# EAGLE library part USB-FPGA1.15 (library usb-fpga-1)
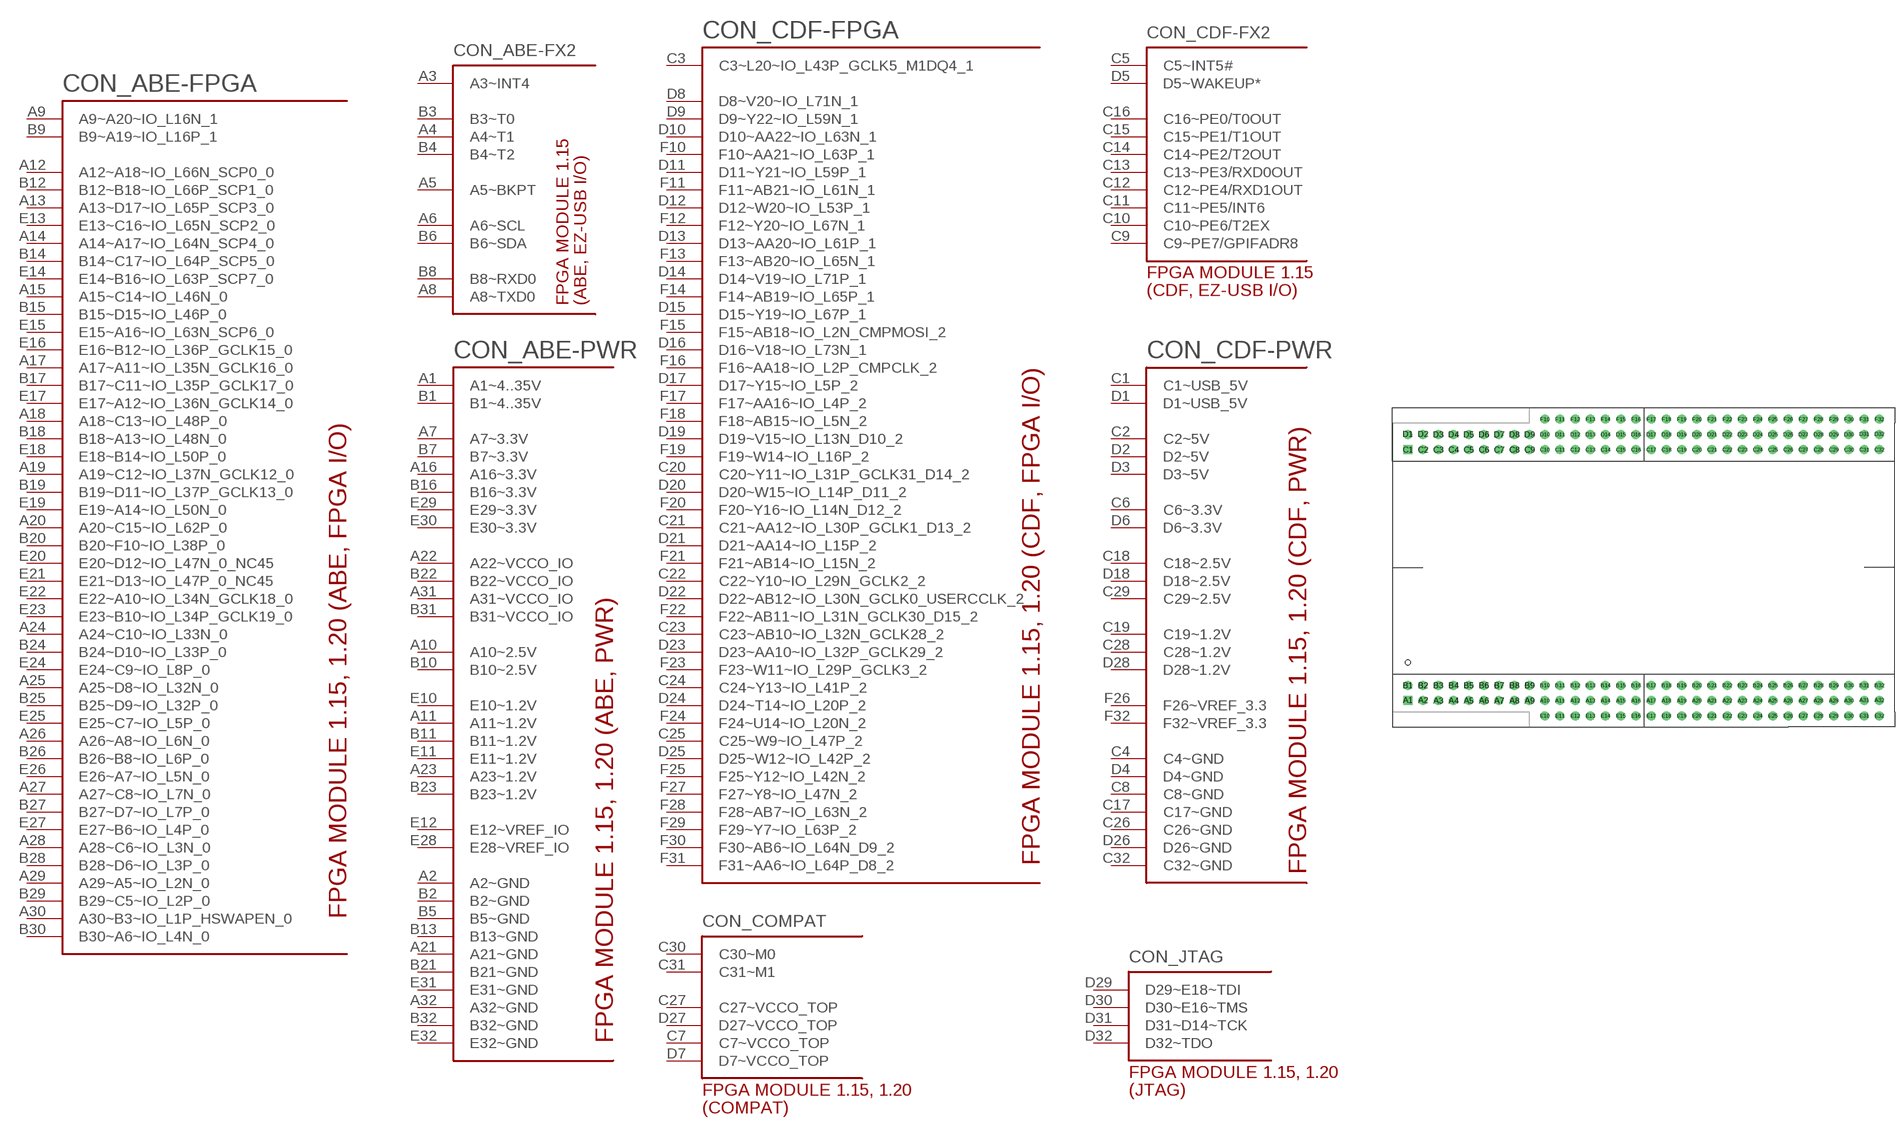
[diagram p11: symbol with the pads of USB-FPGA1.15; footprint USB-FPGA1.15]

Designator prefix CON; gates _ABE-FPGA=IO1.15-ABE-FPGA _ABE-FX2=IO1.15-ABE-FX2 _ABE-PWR=IO1.15-ABE-PWR _CDF-FPGA=IO1.15-CDF-FPGA _CDF-FX2=IO1.15-CDF-FX2 _JTAG=IO1.15-CDF-JTAG _CDF-PWR=IO1.15-CDF-PWR _COMPAT=IO1.15-CDF-COMPAT

## USB-FPGA1.15  [USB-FPGA1.15]
A1  _ABE-PWR:A1~4..35V
A2  _ABE-PWR:A2~GND
A3  _ABE-FX2:A3~INT4
A4  _ABE-FX2:A4~T1
A5  _ABE-FX2:A5~BKPT
A6  _ABE-FX2:A6~SCL
A7  _ABE-PWR:A7~3.3V
A8  _ABE-FX2:A8~TXD0
A9  _ABE-FPGA:A9~A20~IO_L16N_1
A10  _ABE-PWR:A10~2.5V
A11  _ABE-PWR:A11~1.2V
A12  _ABE-FPGA:A12~A18~IO_L66N_SCP0_0
A13  _ABE-FPGA:A13~D17~IO_L65P_SCP3_0
A14  _ABE-FPGA:A14~A17~IO_L64N_SCP4_0
A15  _ABE-FPGA:A15~C14~IO_L46N_0
A16  _ABE-PWR:A16~3.3V
A17  _ABE-FPGA:A17~A11~IO_L35N_GCLK16_0
A18  _ABE-FPGA:A18~C13~IO_L48P_0
A19  _ABE-FPGA:A19~C12~IO_L37N_GCLK12_0
A20  _ABE-FPGA:A20~C15~IO_L62P_0
A21  _ABE-PWR:A21~GND
A22  _ABE-PWR:A22~VCCO_IO
A23  _ABE-PWR:A23~1.2V
A24  _ABE-FPGA:A24~C10~IO_L33N_0
A25  _ABE-FPGA:A25~D8~IO_L32N_0
A26  _ABE-FPGA:A26~A8~IO_L6N_0
A27  _ABE-FPGA:A27~C8~IO_L7N_0
A28  _ABE-FPGA:A28~C6~IO_L3N_0
A29  _ABE-FPGA:A29~A5~IO_L2N_0
A30  _ABE-FPGA:A30~B3~IO_L1P_HSWAPEN_0
A31  _ABE-PWR:A31~VCCO_IO
A32  _ABE-PWR:A32~GND
B1  _ABE-PWR:B1~4..35V
B2  _ABE-PWR:B2~GND
B3  _ABE-FX2:B3~T0
B4  _ABE-FX2:B4~T2
B5  _ABE-PWR:B5~GND
B6  _ABE-FX2:B6~SDA
B7  _ABE-PWR:B7~3.3V
B8  _ABE-FX2:B8~RXD0
B9  _ABE-FPGA:B9~A19~IO_L16P_1
B10  _ABE-PWR:B10~2.5V
B11  _ABE-PWR:B11~1.2V
B12  _ABE-FPGA:B12~B18~IO_L66P_SCP1_0
B13  _ABE-PWR:B13~GND
B14  _ABE-FPGA:B14~C17~IO_L64P_SCP5_0
B15  _ABE-FPGA:B15~D15~IO_L46P_0
B16  _ABE-PWR:B16~3.3V
B17  _ABE-FPGA:B17~C11~IO_L35P_GCLK17_0
B18  _ABE-FPGA:B18~A13~IO_L48N_0
B19  _ABE-FPGA:B19~D11~IO_L37P_GCLK13_0
B20  _ABE-FPGA:B20~F10~IO_L38P_0
B21  _ABE-PWR:B21~GND
B22  _ABE-PWR:B22~VCCO_IO
B23  _ABE-PWR:B23~1.2V
B24  _ABE-FPGA:B24~D10~IO_L33P_0
B25  _ABE-FPGA:B25~D9~IO_L32P_0
B26  _ABE-FPGA:B26~B8~IO_L6P_0
B27  _ABE-FPGA:B27~D7~IO_L7P_0
B28  _ABE-FPGA:B28~D6~IO_L3P_0
B29  _ABE-FPGA:B29~C5~IO_L2P_0
B30  _ABE-FPGA:B30~A6~IO_L4N_0
B31  _ABE-PWR:B31~VCCO_IO
B32  _ABE-PWR:B32~GND
C1  _CDF-PWR:C1~USB_5V
C2  _CDF-PWR:C2~5V
C3  _CDF-FPGA:C3~L20~IO_L43P_GCLK5_M1DQ4_1
C4  _CDF-PWR:C4~GND
C5  _CDF-FX2:C5~INT5#
C6  _CDF-PWR:C6~3.3V
C7  _COMPAT:C7~VCCO_TOP
C8  _CDF-PWR:C8~GND
C9  _CDF-FX2:C9~PE7/GPIFADR8
C10  _CDF-FX2:C10~PE6/T2EX
C11  _CDF-FX2:C11~PE5/INT6
C12  _CDF-FX2:C12~PE4/RXD1OUT
C13  _CDF-FX2:C13~PE3/RXD0OUT
C14  _CDF-FX2:C14~PE2/T2OUT
C15  _CDF-FX2:C15~PE1/T1OUT
C16  _CDF-FX2:C16~PE0/T0OUT
C17  _CDF-PWR:C17~GND
C18  _CDF-PWR:C18~2.5V
C19  _CDF-PWR:C19~1.2V
C20  _CDF-FPGA:C20~Y11~IO_L31P_GCLK31_D14_2
C21  _CDF-FPGA:C21~AA12~IO_L30P_GCLK1_D13_2
C22  _CDF-FPGA:C22~Y10~IO_L29N_GCLK2_2
C23  _CDF-FPGA:C23~AB10~IO_L32N_GCLK28_2
C24  _CDF-FPGA:C24~Y13~IO_L41P_2
C25  _CDF-FPGA:C25~W9~IO_L47P_2
C26  _CDF-PWR:C26~GND
C27  _COMPAT:C27~VCCO_TOP
C28  _CDF-PWR:C28~1.2V
C29  _CDF-PWR:C29~2.5V
C30  _COMPAT:C30~M0
C31  _COMPAT:C31~M1
C32  _CDF-PWR:C32~GND
D1  _CDF-PWR:D1~USB_5V
D2  _CDF-PWR:D2~5V
D3  _CDF-PWR:D3~5V
D4  _CDF-PWR:D4~GND
D5  _CDF-FX2:D5~WAKEUP*
D6  _CDF-PWR:D6~3.3V
D7  _COMPAT:D7~VCCO_TOP
D8  _CDF-FPGA:D8~V20~IO_L71N_1
D9  _CDF-FPGA:D9~Y22~IO_L59N_1
D10  _CDF-FPGA:D10~AA22~IO_L63N_1
D11  _CDF-FPGA:D11~Y21~IO_L59P_1
D12  _CDF-FPGA:D12~W20~IO_L53P_1
D13  _CDF-FPGA:D13~AA20~IO_L61P_1
D14  _CDF-FPGA:D14~V19~IO_L71P_1
D15  _CDF-FPGA:D15~Y19~IO_L67P_1
D16  _CDF-FPGA:D16~V18~IO_L73N_1
D17  _CDF-FPGA:D17~Y15~IO_L5P_2
D18  _CDF-PWR:D18~2.5V
D19  _CDF-FPGA:D19~V15~IO_L13N_D10_2
D20  _CDF-FPGA:D20~W15~IO_L14P_D11_2
D21  _CDF-FPGA:D21~AA14~IO_L15P_2
D22  _CDF-FPGA:D22~AB12~IO_L30N_GCLK0_USERCCLK_2
D23  _CDF-FPGA:D23~AA10~IO_L32P_GCLK29_2
D24  _CDF-FPGA:D24~T14~IO_L20P_2
D25  _CDF-FPGA:D25~W12~IO_L42P_2
D26  _CDF-PWR:D26~GND
D27  _COMPAT:D27~VCCO_TOP
D28  _CDF-PWR:D28~1.2V
D29  _JTAG:D29~E18~TDI
D30  _JTAG:D30~E16~TMS
D31  _JTAG:D31~D14~TCK
D32  _JTAG:D32~TDO
E10  _ABE-PWR:E10~1.2V
E11  _ABE-PWR:E11~1.2V
E12  _ABE-PWR:E12~VREF_IO
E13  _ABE-FPGA:E13~C16~IO_L65N_SCP2_0
E14  _ABE-FPGA:E14~B16~IO_L63P_SCP7_0
E15  _ABE-FPGA:E15~A16~IO_L63N_SCP6_0
E16  _ABE-FPGA:E16~B12~IO_L36P_GCLK15_0
E17  _ABE-FPGA:E17~A12~IO_L36N_GCLK14_0
E18  _ABE-FPGA:E18~B14~IO_L50P_0
E19  _ABE-FPGA:E19~A14~IO_L50N_0
E20  _ABE-FPGA:E20~D12~IO_L47N_0_NC45
E21  _ABE-FPGA:E21~D13~IO_L47P_0_NC45
E22  _ABE-FPGA:E22~A10~IO_L34N_GCLK18_0
E23  _ABE-FPGA:E23~B10~IO_L34P_GCLK19_0
E24  _ABE-FPGA:E24~C9~IO_L8P_0
E25  _ABE-FPGA:E25~C7~IO_L5P_0
E26  _ABE-FPGA:E26~A7~IO_L5N_0
E27  _ABE-FPGA:E27~B6~IO_L4P_0
E28  _ABE-PWR:E28~VREF_IO
E29  _ABE-PWR:E29~3.3V
E30  _ABE-PWR:E30~3.3V
E31  _ABE-PWR:E31~GND
E32  _ABE-PWR:E32~GND
F10  _CDF-FPGA:F10~AA21~IO_L63P_1
F11  _CDF-FPGA:F11~AB21~IO_L61N_1
F12  _CDF-FPGA:F12~Y20~IO_L67N_1
F13  _CDF-FPGA:F13~AB20~IO_L65N_1
F14  _CDF-FPGA:F14~AB19~IO_L65P_1
F15  _CDF-FPGA:F15~AB18~IO_L2N_CMPMOSI_2
F16  _CDF-FPGA:F16~AA18~IO_L2P_CMPCLK_2
F17  _CDF-FPGA:F17~AA16~IO_L4P_2
F18  _CDF-FPGA:F18~AB15~IO_L5N_2
F19  _CDF-FPGA:F19~W14~IO_L16P_2
F20  _CDF-FPGA:F20~Y16~IO_L14N_D12_2
F21  _CDF-FPGA:F21~AB14~IO_L15N_2
F22  _CDF-FPGA:F22~AB11~IO_L31N_GCLK30_D15_2
F23  _CDF-FPGA:F23~W11~IO_L29P_GCLK3_2
F24  _CDF-FPGA:F24~U14~IO_L20N_2
F25  _CDF-FPGA:F25~Y12~IO_L42N_2
F26  _CDF-PWR:F26~VREF_3.3
F27  _CDF-FPGA:F27~Y8~IO_L47N_2
F28  _CDF-FPGA:F28~AB7~IO_L63N_2
F29  _CDF-FPGA:F29~Y7~IO_L63P_2
F30  _CDF-FPGA:F30~AB6~IO_L64N_D9_2
F31  _CDF-FPGA:F31~AA6~IO_L64P_D8_2
F32  _CDF-PWR:F32~VREF_3.3

## Footprint USB-FPGA1.15 (pad centres in mm)
drill 0.925 pad 1.5 square: A1 2.54,1.905
drill 0.925 pad 1.5 round: A2 5.08,1.905; A31 78.74,1.905; A32 81.28,1.905; D1 2.54,46.355; D2 5.08,46.355; D31 78.74,46.355; D32 81.28,46.355
drill 1 pad 1.5 round: A3 7.62,1.905; A4 10.16,1.905; A5 12.7,1.905; A6 15.24,1.905; A7 17.78,1.905; A8 20.32,1.905; A9 22.86,1.905; A10 25.4,1.905; A11 27.94,1.905; A12 30.48,1.905; A13 33.02,1.905; A14 35.56,1.905; A15 38.1,1.905; A16 40.64,1.905; A17 43.18,1.905; A18 45.72,1.905; A19 48.26,1.905; A20 50.8,1.905; A21 53.34,1.905; A22 55.88,1.905; A23 58.42,1.905; A24 60.96,1.905; A25 63.5,1.905; A26 66.04,1.905; A27 68.58,1.905; A28 71.12,1.905; A29 73.66,1.905; A30 76.2,1.905; B1 2.54,4.445; B2 5.08,4.445; B3 7.62,4.445; B4 10.16,4.445; B5 12.7,4.445; B6 15.24,4.445; B7 17.78,4.445; B8 20.32,4.445; B9 22.86,4.445; B10 25.4,4.445; B11 27.94,4.445; B12 30.48,4.445; B13 33.02,4.445; B14 35.56,4.445; B15 38.1,4.445; B16 40.64,4.445; B17 43.18,4.445; B18 45.72,4.445; B19 48.26,4.445; B20 50.8,4.445; B21 53.34,4.445; B22 55.88,4.445; B23 58.42,4.445; B24 60.96,4.445; B25 63.5,4.445; B26 66.04,4.445; B27 68.58,4.445; B28 71.12,4.445; B29 73.66,4.445; B30 76.2,4.445; B31 78.74,4.445; B32 81.28,4.445; C2 5.08,43.815; C3 7.62,43.815; C4 10.16,43.815; C5 12.7,43.815; C6 15.24,43.815; C7 17.78,43.815; C8 20.32,43.815; C9 22.86,43.815; C10 25.4,43.815; C11 27.94,43.815; C12 30.48,43.815; C13 33.02,43.815; C14 35.56,43.815; C15 38.1,43.815; C16 40.64,43.815; C17 43.18,43.815; C18 45.72,43.815; C19 48.26,43.815; C20 50.8,43.815; C21 53.34,43.815; C22 55.88,43.815; C23 58.42,43.815; C24 60.96,43.815; C25 63.5,43.815; C26 66.04,43.815; C27 68.58,43.815; C28 71.12,43.815; C29 73.66,43.815; C30 76.2,43.815; C31 78.74,43.815; C32 81.28,43.815; D3 7.62,46.355; D4 10.16,46.355; D5 12.7,46.355; D6 15.24,46.355; D7 17.78,46.355; D8 20.32,46.355; D9 22.86,46.355; D10 25.4,46.355; D11 27.94,46.355; D12 30.48,46.355; D13 33.02,46.355; D14 35.56,46.355; D15 38.1,46.355; D16 40.64,46.355; D17 43.18,46.355; D18 45.72,46.355; D19 48.26,46.355; D20 50.8,46.355; D21 53.34,46.355; D22 55.88,46.355; D23 58.42,46.355; D24 60.96,46.355; D25 63.5,46.355; D26 66.04,46.355; D27 68.58,46.355; D28 71.12,46.355; D29 73.66,46.355; D30 76.2,46.355; E10 25.4,-0.635; E11 27.94,-0.635; E12 30.48,-0.635; E13 33.02,-0.635; E14 35.56,-0.635; E15 38.1,-0.635; E16 40.64,-0.635; E17 43.18,-0.635; E18 45.72,-0.635; E19 48.26,-0.635; E20 50.8,-0.635; E21 53.34,-0.635; E22 55.88,-0.635; E23 58.42,-0.635; E24 60.96,-0.635; E25 63.5,-0.635; E26 66.04,-0.635; E27 68.58,-0.635; E28 71.12,-0.635; E29 73.66,-0.635; E30 76.2,-0.635; E31 78.74,-0.635; E32 81.28,-0.635; F10 25.4,48.895; F11 27.94,48.895; F12 30.48,48.895; F13 33.02,48.895; F14 35.56,48.895; F15 38.1,48.895; F16 40.64,48.895; F17 43.18,48.895; F18 45.72,48.895; F19 48.26,48.895; F20 50.8,48.895; F21 53.34,48.895; F22 55.88,48.895; F23 58.42,48.895; F24 60.96,48.895; F25 63.5,48.895; F26 66.04,48.895; F27 68.58,48.895; F28 71.12,48.895; F29 73.66,48.895; F30 76.2,48.895; F31 78.74,48.895; F32 81.28,48.895
drill 1 pad 1.5 square: C1 2.54,43.815
hole 0.9 at 2.54,8.255